# EAGLE library part SPARKFUN-DIGITALIC_SPARKFUN_TPA6111 (library sparkfun_si4707_breakout)
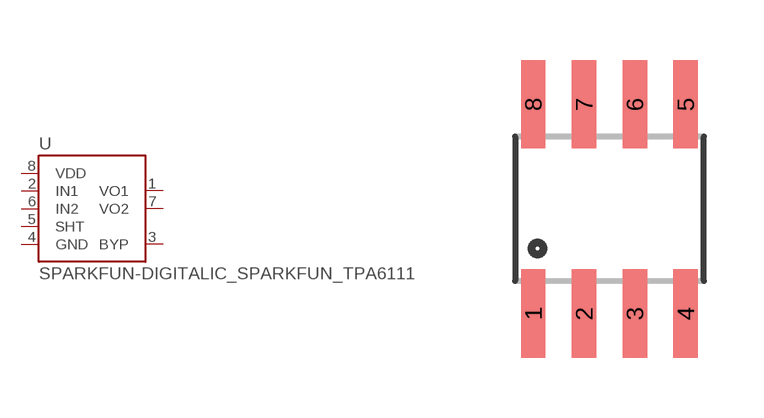
[diagram p1: symbol with the pads of SPARKFUN-DIGITALIC_SPARKFUN_SO08; footprint SPARKFUN-DIGITALIC_SPARKFUN_SO08]

Designator prefix U

## SPARKFUN-DIGITALIC_SPARKFUN_TPA6111SMD  [SPARKFUN-DIGITALIC_SPARKFUN_SO08]
1  VO1
2  IN1
3  BYP
4  GND
5  SHT
6  IN2
7  VO2
8  VDD

## Footprint SPARKFUN-DIGITALIC_SPARKFUN_SO08 (pad centres in mm)
Small Outline Package Fits JEDEC packages (narrow SOIC-8)
smd 0.61 x 2.21: 1 -1.905,-2.616; 2 -0.635,-2.616; 3 0.635,-2.616; 4 1.905,-2.616; 5 1.905,2.616; 6 0.635,2.616; 7 -0.635,2.616; 8 -1.905,2.616